# Altium footprint library DIPS1524W50P254L5030H800Q12N.PcbLib: 1 footprints
Each footprint in its own frame and in the unit in brackets; x right, y up, seen from the top. Pads: shape width x height; smd on the part's side, far side on the other; paste and mask are expansions set on the pad; w line width, h text height; cw(c..) or ccw(c..) is an arc to the next point about the centre after c.
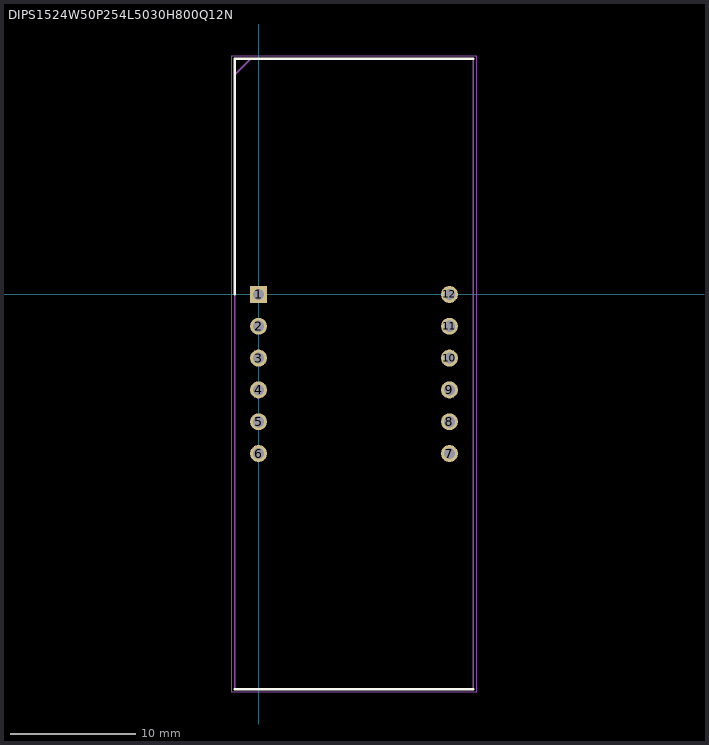
[diagram p0: the footprint, top view; thin cyan lines are the x and y axes]

## DIPS1524W50P254L5030H800Q12N [mm]
pads (12):
  rect 1.35x1.35 / inner round 1.35 / far side rect 1.35x1.35 hole 0.9: 1(0,0)
  round 1.35 hole 0.9: 2(0,-2.54) 3(0,-5.08) 4(0,-7.62) 5(0,-10.16) 6(0,-12.7) 7(15.24,-12.7) 8(15.24,-10.16) 9(15.24,-7.62) 10(15.24,-5.08) 11(15.24,-2.54) 12(15.24,0)
Top Overlay:
  lines w0.2: -1.88,-31.5 17.12,-31.5 ; -1.88,0 -1.88,18.8 17.12,18.8
Mechanical 15:
  lines w0.1: -1.88,17.53 -0.61,18.8 ; -1.88,-31.5 17.12,-31.5 17.12,18.8 -1.88,18.8 -1.88,-31.5
Mechanical 20:
  lines w0.05: -2.13,-31.75 17.37,-31.75 17.37,19.05 -2.13,19.05 -2.13,-31.75